# EAGLE library part HMC5883L (library jos-ph)
Adafruit HMC3588L Magnetometer / Compass Breakout https://www.adafruit.com/products/1746
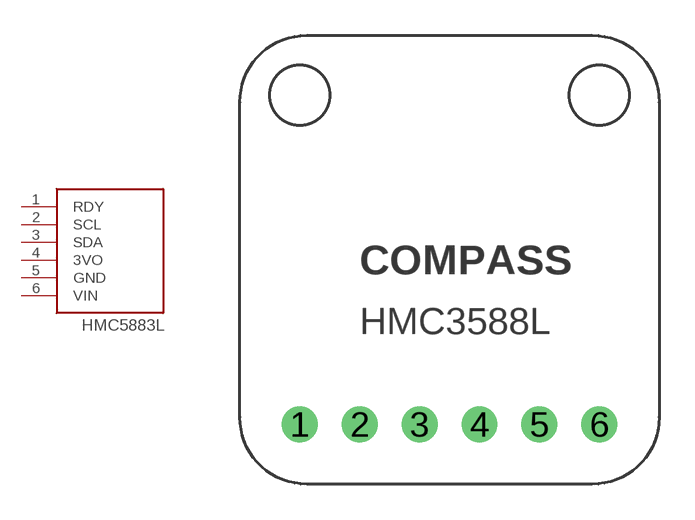
[diagram p2: symbol with the pads of HMC5883L; footprint HMC5883L]

Designator prefix -

## HMC5883L  [HMC5883L]
1  RDY
2  SCL
3  SDA
4  3VO
5  GND
6  VIN

## Footprint HMC5883L (pad centres in mm)
Adafruit HMC5883L
drill 1.016: 1 -6.35,-6.35; 2 -3.81,-6.35; 3 -1.27,-6.35; 4 1.27,-6.35; 5 3.81,-6.35; 6 6.35,-6.35